# Altium footprint library SMD_components.PcbLib: 42 footprints (part 1 of 3)
Each footprint in its own frame and in the unit in brackets; x right, y up, seen from the top. Pads: shape width x height; smd on the part's side, far side on the other; paste and mask are expansions set on the pad; w line width, h text height; cw(c..) or ccw(c..) is an arc to the next point about the centre after c.
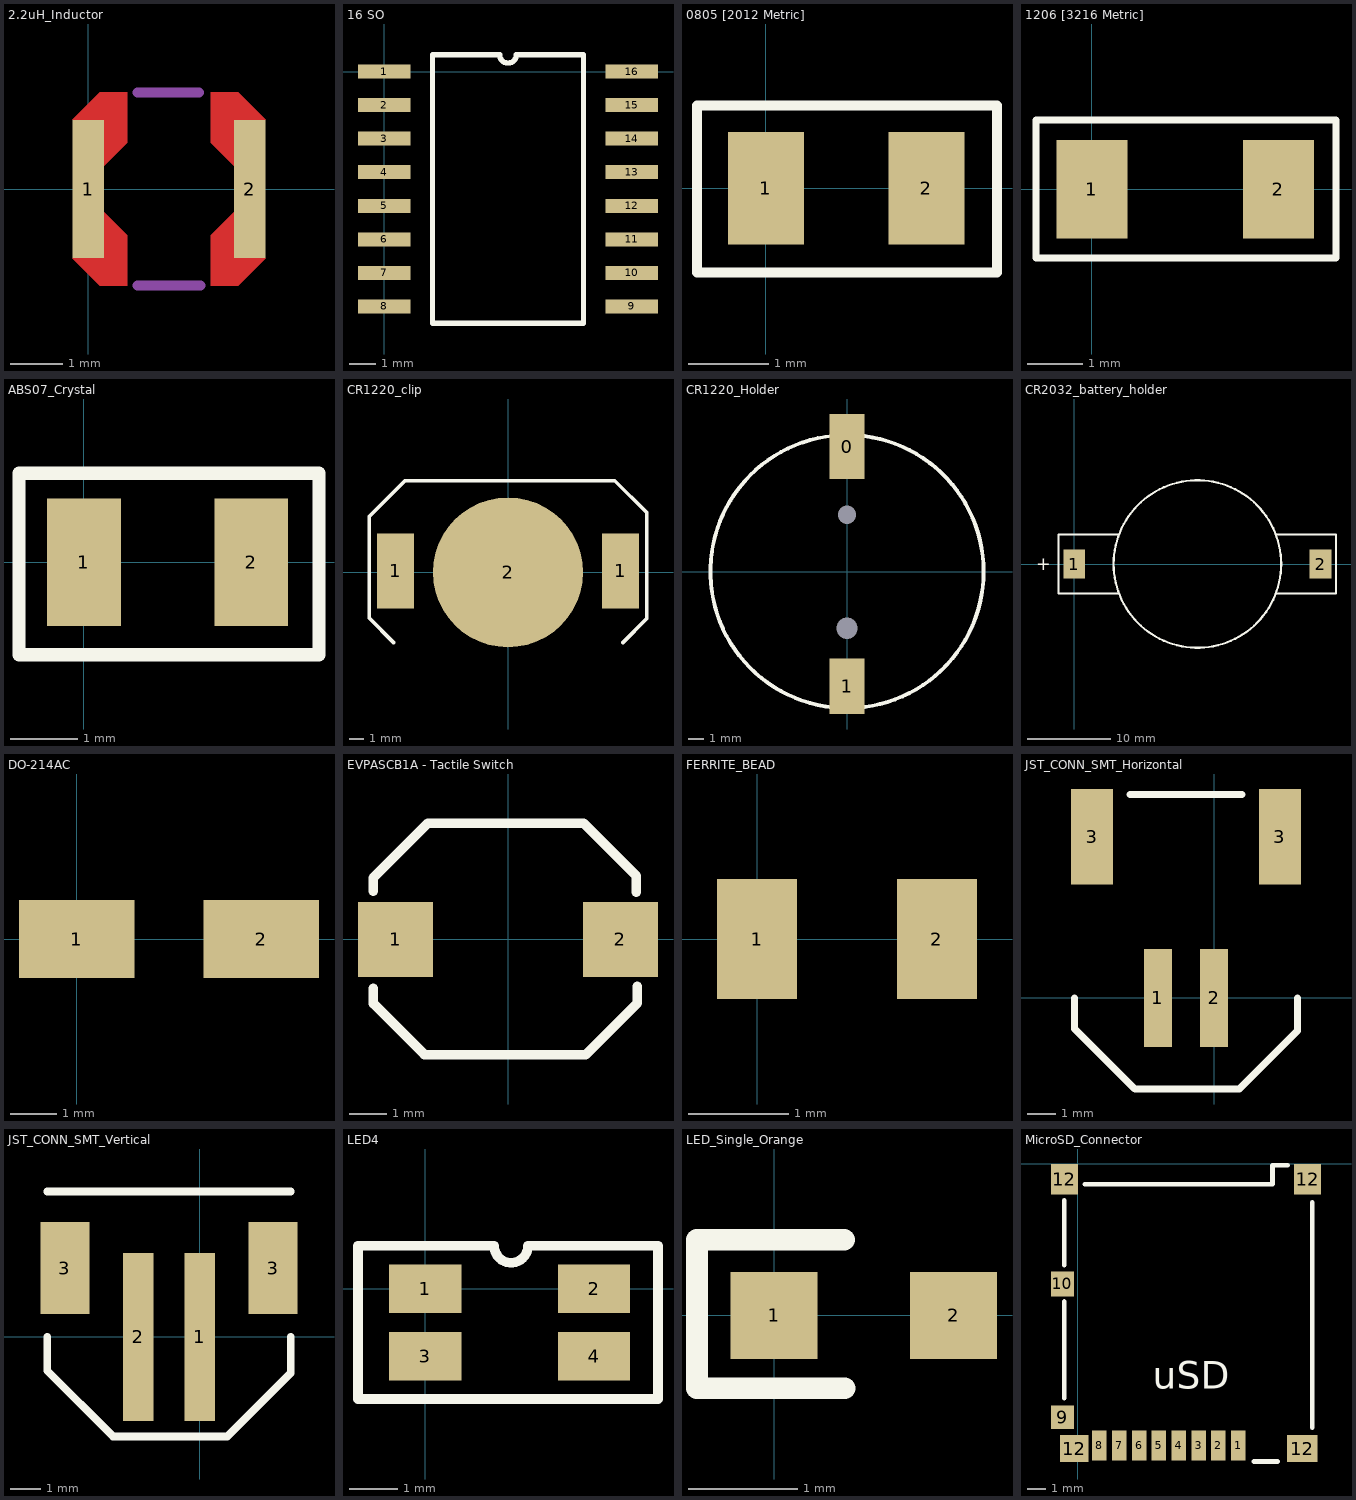
[diagram p0: the footprints below, top view; thin cyan lines are the x and y axes]

## 2.2uH_Inductor [mm] "LPS3314-222MRB"
height 1.4
pads (2):
  rect 0.6x2.65 smd: 1(0,0) 2(3.1,0)
Top Layer:
  region: 3.4,-1.325 2.875,-1.85 2.35,-1.85 2.35,-0.882 2.8,-0.44 2.8,0.44 2.35,0.882 2.35,1.85 2.875,1.85 3.4,1.325 2.85,1.325 2.85,-1.325
  region: -0.3,1.325 0.225,1.85 0.75,1.85 0.75,0.882 0.3,0.44 0.3,-0.44 0.75,-0.882 0.75,-1.85 0.225,-1.85 -0.3,-1.325 0.25,-1.325 0.25,1.325
Mechanical 1:
  lines w0.2: 0.95,-1.85 2.15,-1.85 ; 0.95,1.85 2.125,1.85
3D body: height 1.4, standoff 0, extent -0.3,-1.85 3.4,1.85

## 16 SO [mm]
pads (16):
  rect 1.98x0.53 smd: 1(0,0) 2(0,-1.27) 3(0,-2.54) 4(0,-3.81) 5(0,-5.08) 6(0,-6.35) 7(0,-7.62) 8(0,-8.89) 9(9.37,-8.89) 10(9.37,-7.62) 11(9.37,-6.35) 12(9.37,-5.08) 13(9.37,-3.81) 14(9.37,-2.54) 15(9.37,-1.27) 16(9.37,0)
Top Overlay:
  lines w0.2: 1.825,-9.525 1.825,0.635 4.367,0.635 ccw(c4.685,0.635) 5.002,0.635 7.545,0.635 7.545,-9.525 1.825,-9.525
3D body: height 3, standoff 0, extent 1.825,-9.525 7.545,0.635

## 0805 [2012 Metric] [mm]
pads (2):
  rect 0.95x1.4 smd: 1(0,0) 2(2,0)
Top Overlay:
  lines w0.127: -0.86,-1.05 -0.86,1.03 2.88,1.03 2.88,-1.05 -0.86,-1.05
3D body: height 2, standoff 0.8, extent -0.103,-0.696 2.064,0.692

## 1206 [3216 Metric] [mm]
pads (2):
  rect 1.3x1.8 smd: 1(0,0) 2(3.4,0)
Top Overlay:
  lines w0.127: -1.02,-1.25 4.45,-1.25 4.45,1.26 -1.02,1.26 -1.02,-1.25
3D body: height 2, standoff 0.8, extent -0.016,-0.89 3.455,0.889

## ABS07_Crystal [mm] "ABS07-32.768KHZ-T"
height 0.9
pads (2):
  rect 1.1x1.9 smd: 1(0,0) 2(2.5,0)
Top Overlay:
  lines w0.2: -0.97,-1.38 -0.97,1.33 3.51,1.33 3.51,-1.38 -0.97,-1.38
  text "." at -0.89,1.79 h1
3D body: height 0.9, standoff 0, extent -0.644,-1.055 3.146,1.048

## CR1220_clip [mm]
pads (3):
  rect 2.5x5.1 smd: 1(-7.65,0.1) 1(7.65,0.1)
  round 10.2 smd: 2(0,0)
Top Overlay:
  lines w0.254: -7.783,-4.766 -9.438,-3.111 -9.438,-0.204 -9.438,3.805 -7.009,6.234 7.263,6.234 9.434,4.063 9.434,-3.148 7.816,-4.766

## CR1220_Holder [mm]
pads (4):
  rect 2.3x4.3 smd: 0(0,8.26)
  rect 2.3x3.66 smd: 1(0,-7.58)
  round 0 hole 1.2: 2(0,3.75)
  round 0 hole 1.4: 3(0,-3.75)
Top Overlay:
  circle w0.254: c0,0 r9.024

## CR2032_battery_holder [mm]
pads (2):
  rect 2.6x3.5 smd: 1(0,0) 2(29.4,0)
Top Overlay:
  circle w0.254: c14.7,0 r10
  lines w0.254: 5.207,-3.5 -1.905,-3.5 -1.905,3.5 5.207,3.5 ; 24.059,-3.5 25.146,-3.5 31.242,-3.5 31.242,3.5 25.908,3.5 24.201,3.5
  text "+" at -4.572,-0.762 h1.52
3D body: height 5, standoff 0, extent 4.669,-10 24.669,10
3D body: height 5, standoff 0, extent -1.905,-3.5 31.242,3.5

## DO-214AC [mm] "DIODE B340A-13-F"
height 2.3
pads (2):
  rect 2.5x1.7 smd: 1(0,0) 2(4,0)
Top Overlay:
  text "." at -1.225,1.575 h1
3D body: height 2.3, standoff 0, extent -0.675,-1.4 4.675,1.4

## EVPASCB1A - Tactile Switch [mm]
pads (2):
  rect 2x2 smd: 1(-3,0) 2(3,0)
Top Overlay:
  lines w0.254: -3.587,-1.304 -3.587,-1.716 -2.231,-3.072 2.077,-3.072 3.45,-1.699 3.45,-1.253 ; -3.587,1.287 -3.587,1.647 -2.145,3.089 2.025,3.089 3.415,1.699 3.415,1.253
3D body: height 5, standoff 0, extent -3.587,-3.072 3.45,3.089

## FERRITE_BEAD [mm] "MMZ2012Y152B"
pads (2):
  rect 0.8x1.2 smd: 1(0,0) 2(1.8,0)
3D body: height 2, standoff 0.8, extent -0.021,-0.582 1.843,0.59

## JST_CONN_SMT_Horizontal [mm] "S2B-PH-SM4-TB(LF)(SN) 2 Contacts Surface mount JST connector"
height 5.5
pads (4):
  rect 1x3.5 smd: 1(-2,0) 2(0,0)
  rect 1.5x3.4 smd: 3(-4.35,5.75) 3(2.35,5.75)
Top Overlay:
  lines w0.254: -4.975,0 -4.975,-1.1 -2.825,-3.25 0.9,-3.25 2.975,-1.175 2.975,0 ; -3,7.25 1,7.25
3D body: height 5.5, standoff 0, extent -4.975,-0.25 2.975,7.25

## JST_CONN_SMT_Vertical [mm] "B2B-PH-SM4-TB(LF)(SN) 2 Contacts Surface mount JST connector"
pads (4):
  rect 1x5.5 smd: 1(0,0) 2(-2,0)
  rect 1.6x3 smd: 3(-4.4,2.25) 3(2.4,2.25)
Top Overlay:
  lines w0.254: -4.975,0 -4.975,-1.1 -2.825,-3.25 0.9,-3.25 2.975,-1.175 2.975,0 ; -4.975,4.75 2.975,4.75
3D body: height 6.6, standoff 0, extent -4.975,-0.25 2.975,4.75

## LED4 [mm]
pads (4):
  rect 1.5x1 smd: 1(0,0) 2(3.5,0) 3(0,-1.4) 4(3.5,-1.4)
Top Overlay:
  lines w0.2: -1.397,-2.286 4.826,-2.286 4.826,0.889 2.128,0.889 cw(c1.778,0.889) 1.428,0.889 -1.397,0.889 -1.397,-2.286
3D body: height 2, standoff 1.4, extent -0.028,-1.879 3.623,0.503

## LED_Single_Orange [mm] "KP-1608SECK"
height 1.1
pads (2):
  rect 0.8x0.8 smd: 1(0,0) 2(1.65,0)
Top Overlay:
  lines w0.2: 0.644,0.696 -0.709,0.696 -0.709,-0.672 0.649,-0.672
3D body: height 2, standoff 1.1, extent -0.074,-0.496 1.765,0.459

## MicroSD_Connector [mm] "MOLEX 502774-0891"
height 1.2
pads (14):
  rect 0.8x1.68 smd: 1(8.9,-15.61) 2(7.8,-15.61) 3(6.7,-15.61) 4(5.6,-15.61) 5(4.5,-15.61) 6(3.4,-15.61) 7(2.3,-15.61) 8(1.2,-15.61)
  rect 1.29x1.3 smd: 9(-0.855,-14.05)
  rect 1.29x1.4 smd: 10(-0.855,-6.65)
  rect 1.5x1.7 smd: 12(-0.75,-0.85) 12(12.75,-0.85)
  rect 1.6x1.5 smd: 12(-0.2,-15.79)
  rect 1.7x1.5 smd: 12(12.45,-15.79)
Top Overlay:
  lines w0.254: -0.75,-13 -0.75,-7.625 ; -0.75,-5.625 -0.75,-2 ; 0.375,-1.125 10.8,-1.125 10.8,-0.075 ; 9.75,-16.5 11.1,-16.5 ; 11.65,-0.075 10.8,-0.075 ; 13,-14.625 13,-2.125 ; 10.8,-0.075 10.8,-0.075
  text "uSD" at 4.15,-12.475 h1.52
3D body: height 1.8, standoff 0, extent -1.125,-16.175 13.15,-0.054